# Altium schematic symbol library AD8293G160ARJZ.SchLib: 1 symbol
Pins are listed as number, name and electrical type; pins without a type are passive.

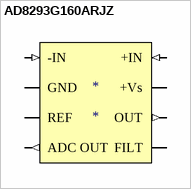
[diagram p0: symbol AD8293G160ARJZ]

## AD8293G160ARJZ
designator *
pins: 1 -IN (in), 2 GND (power), 3 REF, 4 ADC OUT (out), 5 FILT, 6 OUT (out), 7 +Vs, 8 +IN (in)